# Altium footprint library tps61170.PcbLib: 1 footprints
Each footprint in its own frame and in the unit in brackets; x right, y up, seen from the top. Pads: shape width x height; smd on the part's side, far side on the other; paste and mask are expansions set on the pad; w line width, h text height; cw(c..) or ccw(c..) is an arc to the next point about the centre after c.
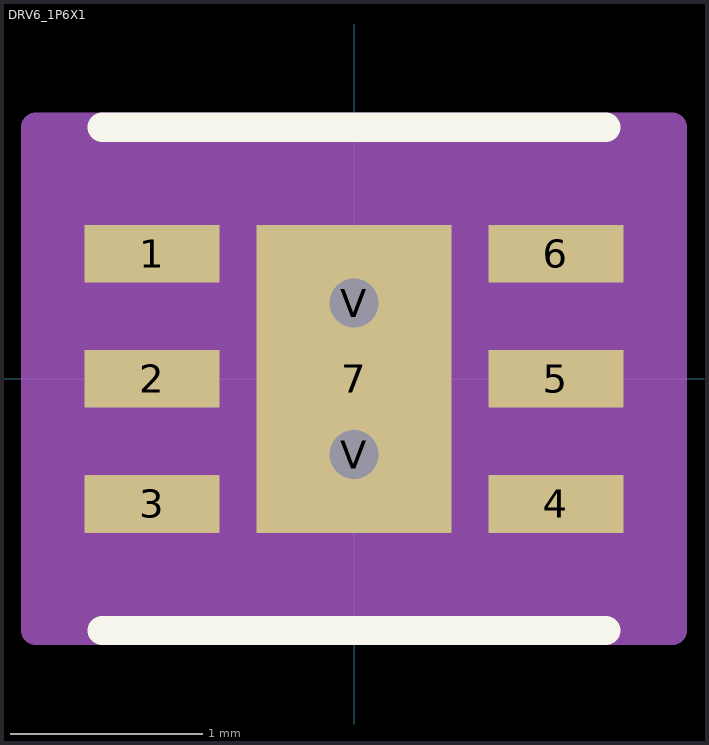
[diagram p0: the footprint, top view; thin cyan lines are the x and y axes]

## DRV6_1P6X1 [mm]
pads (9):
  rect 0.7x0.3 smd paste-0.15: 1(-1.05,0.65) 2(-1.05,0) 3(-1.05,-0.65) 4(1.05,-0.65) 5(1.05,0) 6(1.05,0.65)
  rect 1.016x1.6 smd paste-0.787 mask-0.787: 7(0,0)
  round 0.508 / inner round 1.524 / far side round 0.508 hole 0.254: V(0,-0.394) V(0,0.394)
Top Layer:
  region: 0,0.8
  region: 0,-0.8
Top Overlay:
  lines w0.152: -1.308,-1.308 1.308,-1.308 ; -1.308,1.308 1.308,1.308
Top Paste:
  region: -0.725,0.775 -1.375,0.775 -1.375,0.525 -0.725,0.525
  region: -0.725,0.125 -1.375,0.125 -1.375,-0.125 -0.725,-0.125
  region: -0.725,-0.525 -1.375,-0.525 -1.375,-0.775 -0.725,-0.775
  region: 1.375,-0.525 0.725,-0.525 0.725,-0.775 1.375,-0.775
  region: 1.375,0.125 0.725,0.125 0.725,-0.125 1.375,-0.125
  region: 1.375,0.775 0.725,0.775 0.725,0.525 1.375,0.525
  region: -0.1,0.725 -0.433,0.725 -0.433,0.494 -0.241,0.494 -0.1,0.635
  region: -0.241,0.294 -0.433,0.294 -0.433,-0.294 -0.241,-0.294 -0.1,-0.152 -0.1,0.152
  region: -0.241,-0.494 -0.433,-0.494 -0.433,-0.725 -0.1,-0.725 -0.1,-0.635
  region: 0.433,0.725 0.1,0.725 0.1,0.635 0.241,0.494 0.433,0.494
  region: 0.433,0.294 0.241,0.294 0.1,0.152 0.1,-0.152 0.241,-0.294 0.433,-0.294
  region: 0.433,-0.494 0.241,-0.494 0.1,-0.635 0.1,-0.725 0.433,-0.725
Top Solder:
  region: -0.63,0.87 -1.47,0.87 -1.47,0.43 -0.63,0.43
  region: -0.63,0.22 -1.47,0.22 -1.47,-0.22 -0.63,-0.22
  region: -0.63,-0.43 -1.47,-0.43 -1.47,-0.87 -0.63,-0.87
  region: 1.47,-0.43 0.63,-0.43 0.63,-0.87 1.47,-0.87
  region: 1.47,0.22 0.63,0.22 0.63,-0.22 1.47,-0.22
  region: 1.47,0.87 0.63,0.87 0.63,0.43 1.47,0.43
  region: -0.572,0.594 -0.572,0.864 0.572,0.864 0.572,0.594
  region: -0.572,-0.194 -0.572,0.194 0.572,0.194 0.572,-0.194
  region: -0.572,-0.864 -0.572,-0.594 0.572,-0.594 0.572,-0.864
  region: -0.572,-0.864 -0.572,0.864 -0.2,0.864 -0.2,-0.864
  region: 0.2,-0.864 0.2,0.864 0.572,0.864 0.572,-0.864
  region: 0,0.8
  region: 0,-0.8
Mechanical 13:
  lines w0: -0.305,1.054 ccw(c0,1.054) 0.305,1.054
Mechanical 15:
  region: 1.654,-1.308 -1.654,-1.308 -1.654,1.308 1.654,1.308
  lines w0.152: -1.654,-1.308 -1.654,1.308 1.654,1.308 1.654,-1.308 -1.654,-1.308
3D body "DRV6_1P6X1.stp": height 0.82, standoff 0, extent -1.105,-1.054 1.105,1.054